# Altium footprint library SnapEDApcb.PcbLib: 1 footprints
Each footprint in its own frame and in the unit in brackets; x right, y up, seen from the top. Pads: shape width x height; smd on the part's side, far side on the other; paste and mask are expansions set on the pad; w line width, h text height; cw(c..) or ccw(c..) is an arc to the next point about the centre after c.
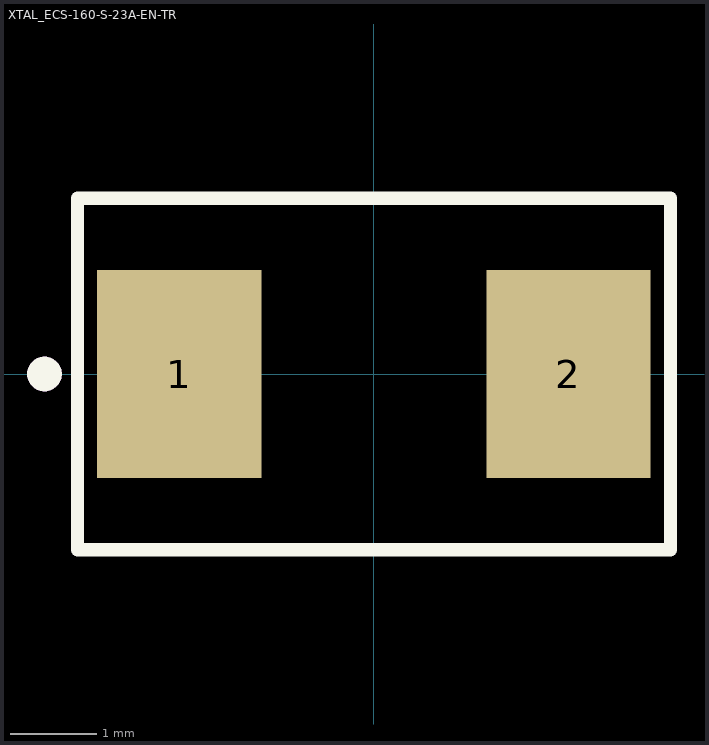
[diagram p0: the footprint, top view; thin cyan lines are the x and y axes]

## XTAL_ECS-160-S-23A-EN-TR [mm]
pads (2):
  rect 1.9x2.4 smd: 1(-2.25,0) 2(2.25,0)
Top Overlay:
  circle w0.2: c-3.81,0 r0.1
  lines w0.152: -3.048,-2.032 2.952,-2.032 3.429,-2.032 3.429,1.778 3.429,2.032 -3.429,2.032 -3.429,-2.032 2.921,-2.032 ; -3.048,2.032 2.952,2.032
Mechanical 29:
  circle w0.2: c-3.81,0 r0.1
  lines w0.127: -3.429,-2.032 3.429,-2.032 3.429,2.032 -3.429,2.032 -3.429,-2.032
Mechanical 15:
  lines w0.05: -3.45,-2 -3.45,2 3.45,2 3.45,-2 -3.45,-2
3D body "ECS-160-S-23A-EN-TR.STEP": height 1.11, standoff 0.01, extent -3,-1.75 3,1.75